# EAGLE library part MPU-6000 (library invensense)
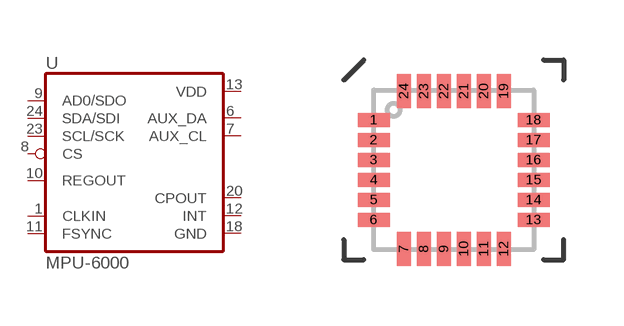
[diagram p0: symbol with the pads of QFN24; footprint QFN24]

Designator prefix U

## MPU-6000  [QFN24]
1  CLKIN  in
6  AUX_DA
7  AUX_CL
8  CS  in
9  AD0/SDO
10  REGOUT  out
11  FSYNC  in
12  INT  out
13  VDD  out
18  GND  out
20  CPOUT  out
23  SCL/SCK  out
24  SDA/SDI  out

## Footprint QFN24 (pad centres in mm)
smd 0.8 x 0.35: 1 -2,1.25; 2 -2,0.75; 3 -2,0.25; 4 -2,-0.25; 5 -2,-0.75; 6 -2,-1.25; 13 2,-1.25; 14 2,-0.75; 15 2,-0.25; 16 2,0.25; 17 2,0.75; 18 2,1.25
smd 0.35 x 0.85: 7 -1.25,-1.975; 8 -0.75,-1.975; 9 -0.25,-1.975; 10 0.25,-1.975; 11 0.75,-1.975; 12 1.25,-1.975; 19 1.25,1.975; 20 0.75,1.975; 21 0.25,1.975; 22 -0.25,1.975; 23 -0.75,1.975; 24 -1.25,1.975